# Altium footprint library PCB - CRYSTALS - TAITIEN NI-10M-3560.PCBLIB: 1 footprints
Each footprint in its own frame and in the unit in brackets; x right, y up, seen from the top. Pads: shape width x height; smd on the part's side, far side on the other; paste and mask are expansions set on the pad; w line width, h text height; cw(c..) or ccw(c..) is an arc to the next point about the centre after c.
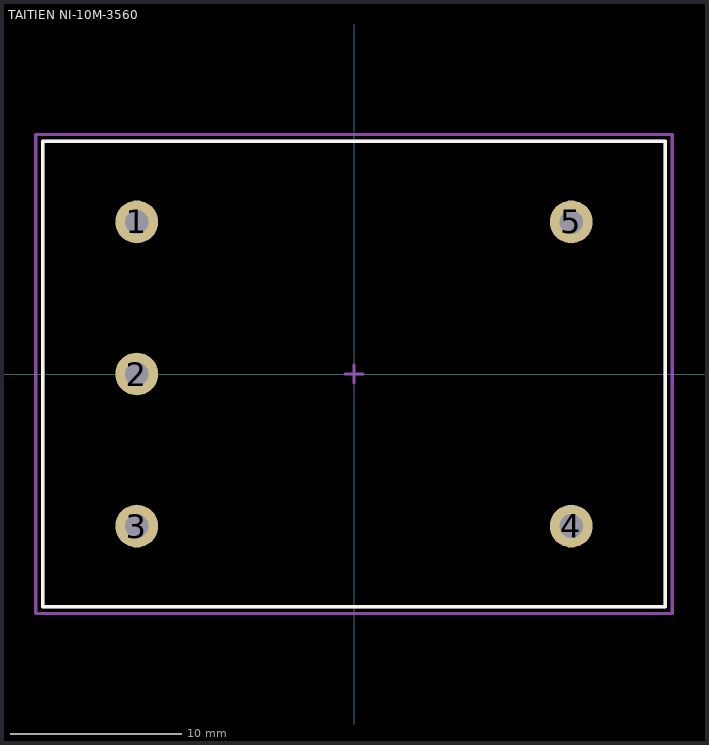
[diagram p0: the footprint, top view; thin cyan lines are the x and y axes]

## TAITIEN NI-10M-3560 [mm] "Double Oven Controlled Crystal Oscillator"
height 18.8
pads (5):
  round 2.5 hole 1.4 paste-2539.97: 1(-12.7,8.89) 2(-12.7,0) 3(-12.7,-8.89) 4(12.7,-8.89) 5(12.7,8.89)
Top Overlay:
  lines w0.2: -18.2,-13.6 18.2,-13.6 18.2,13.6 -18.2,13.6 -18.2,-13.6
Top Component Center:
  lines w0.2: -0.5,0 0.5,0 ; 0,-0.5 0,0.5
Top Component Outline:
  lines w0.2: -18.2,-13.6 18.2,-13.6 18.2,13.6 -18.2,13.6 -18.2,-13.6
Top Courtyard (Mech15):
  lines w0.2: -18.6,-14 18.6,-14 18.6,14 -18.6,14 -18.6,-14
3D body "TAITIEN NI-10M-3560.step": height 18.82, standoff -6.58, extent -18.16,-13.59 18.16,13.59